# Altium schematic symbol library SCH - COMPARATOR - ON SEMI LM339.SCHLIB: 1 symbol
Pins are listed as number, name and electrical type; pins without a type are passive.

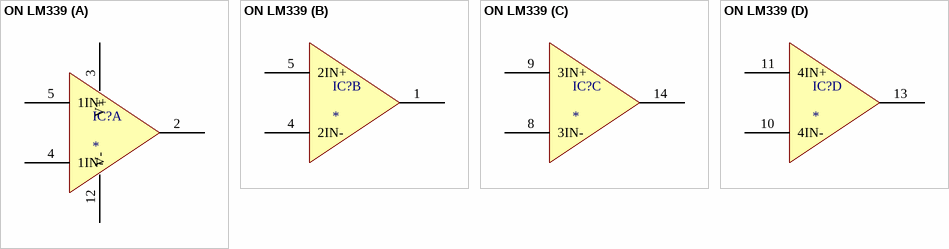
[diagram p0: symbol ON LM339]

## ON LM339
designator IC?
part A pins: 2 1OUT, 3 V+ (power), 4 1IN-, 5 1IN+, 12 V- (power)
part B pins: 1 2OUT, 4 2IN-, 5 2IN+
part C pins: 8 3IN-, 9 3IN+, 14 3OUT
part D pins: 10 4IN-, 11 4IN+, 13 4OUT